# EAGLE library part BGA725L6 (library permamote)
BGA725L6 - Silicon Germanium Low Noise Amplifier for Global Navigation Satellite Systems (GNSS) Features • High insertion power gain: 20.0 • Out-of-band input 3rd order intercept point: -2 dBm • Input 1 dB compression point: -15 dBm • Low noise figure: 0.65 dB • Low current consumption: 3.6 mA • Operating frequencies: 1550 - 1615 MHz • Supply voltage: 1.5 V to 3.6 V • Digital on/off switch (1V logic high level) • Ultra small TSLP-6-2 leadless package (footprint: 0.7 x 1.1 mm2 )
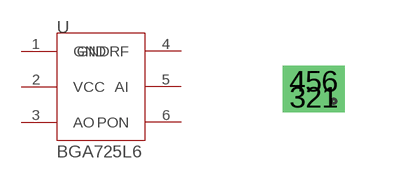
[diagram p0: symbol with the pads of BGA725L6; footprint BGA725L6]

Designator prefix -

## BGA725L6  [BGA725L6]
1  GND
2  VCC
3  AO
4  GNDRF
5  AI
6  PON

## Footprint BGA725L6 (pad centres in mm)
drill 0.25 pad 0.25 square: 1 0.4,-0.2; 2 0,-0.2; 3 -0.4,-0.2; 4 -0.4,0.2; 5 0,0.2; 6 0.4,0.2